# EAGLE library part SN74LVC1G373 (library texas-instruments-jqi)
Texas Instruments SN74LVC1G373 tristate transparent d-latch.
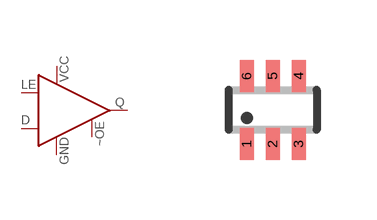
[diagram p5: symbol with the pads of SC70-6L; footprint SC70-6L]

Designator prefix IC

## SN74LVC1G373  [SC70-6L]
1  LE  in
2  GND  in
3  D  in
4  Q  out
5  VCC  in
6  ~OE  in

## Footprint SC70-6L (pad centres in mm)
SC-70 Package
smd 0.35 x 0.8: 1 -0.65,-0.85; 2 0,-0.85; 3 0.65,-0.85; 4 0.65,0.85; 5 0,0.85; 6 -0.65,0.85